# Altium footprint library ad.PcbLib: 129 footprints (part 1 of 12)
Each footprint in its own frame and in the unit in brackets; x right, y up, seen from the top. Pads: shape width x height; smd on the part's side, far side on the other; paste and mask are expansions set on the pad; w line width, h text height; cw(c..) or ccw(c..) is an arc to the next point about the centre after c.
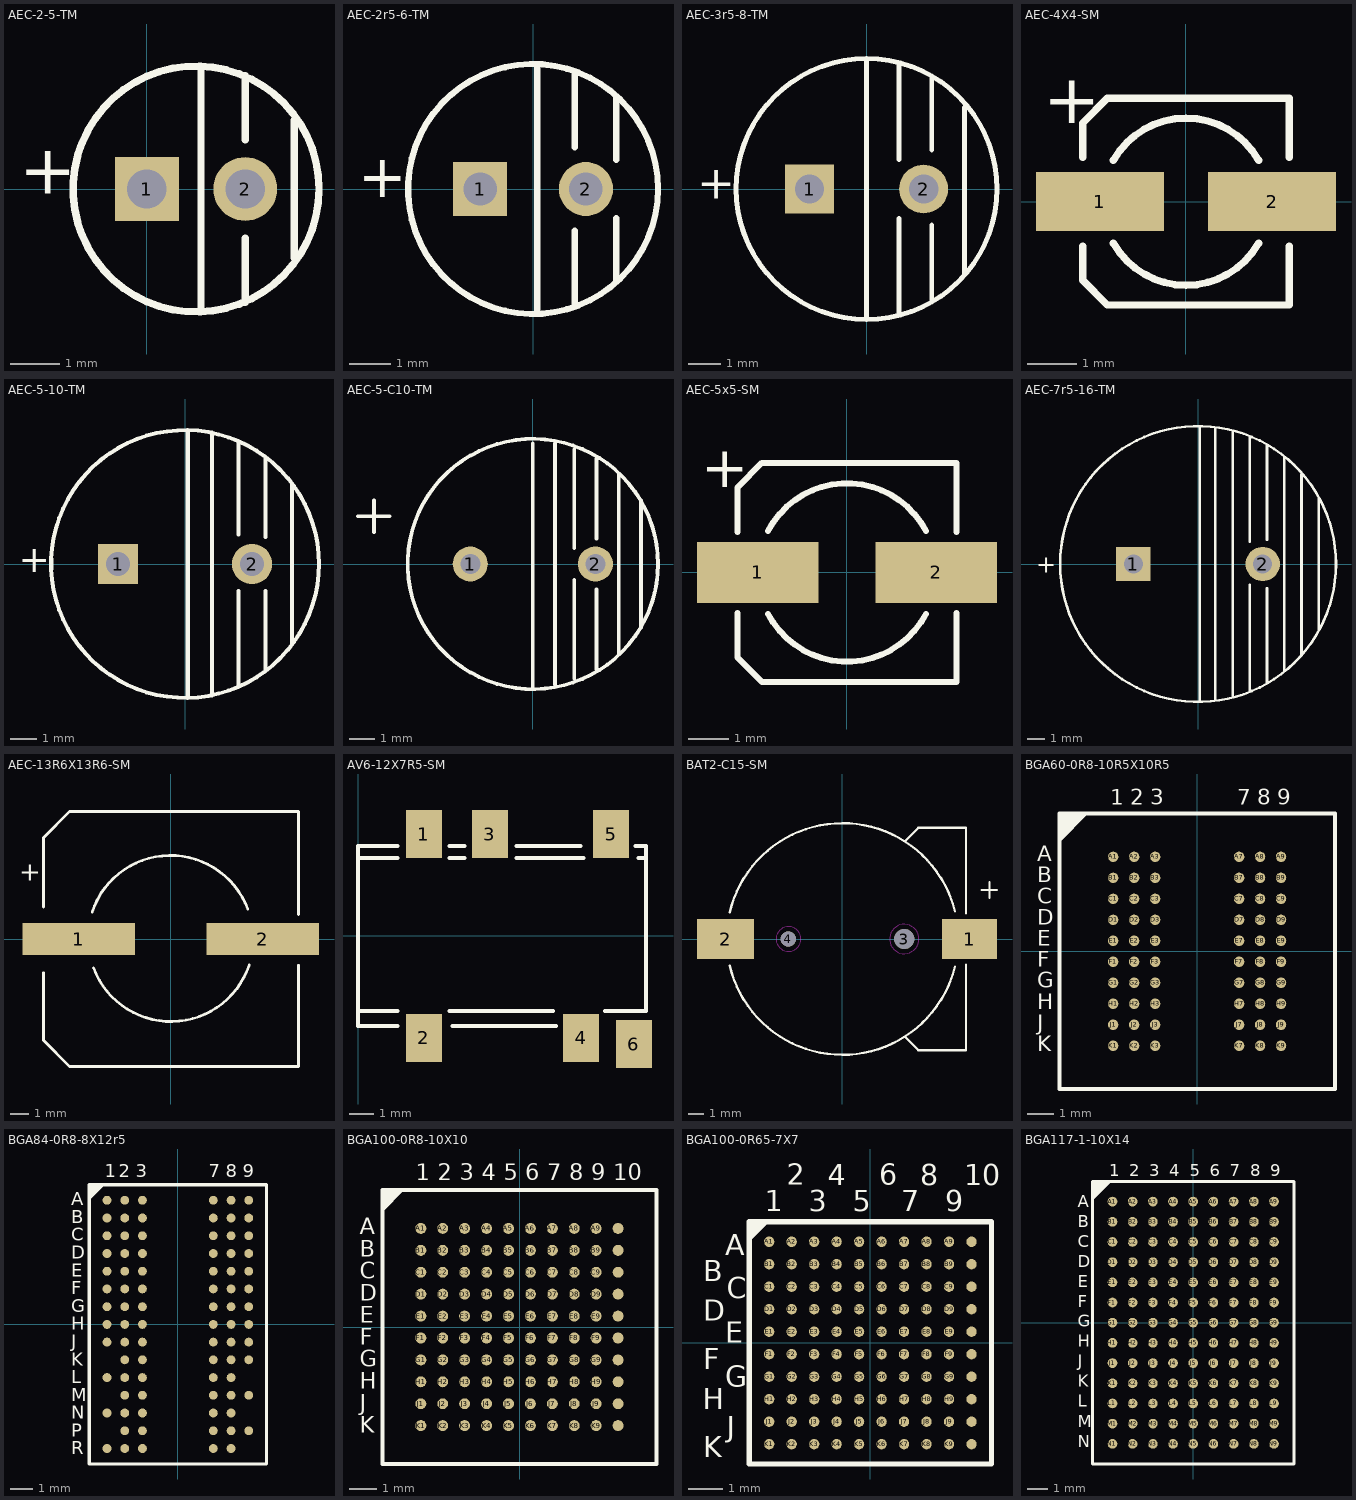
[diagram p0: the footprints below, top view; thin cyan lines are the x and y axes]

## AEC-2-5-TM [mm]
pads (2):
  rect 1.3x1.3 hole 0.8: 1(0,0)
  round 1.3 hole 0.8: 2(2,0)
Top Overlay:
  circle w0.15: c1,0 r2.5
  lines w0.15: 1.1,-2.5 1.1,2.5 ; 2,-2.3 2,-1 ; 2,1 2,2.3 ; 3,-1.4 3,1.4
  text "+" at -2.6,-0.1 h1.02

## AEC-2r5-6-TM [mm]
pads (2):
  rect 1.3x1.3 hole 0.8: 1(-1.27,0)
  round 1.3 hole 0.8: 2(1.27,0)
Top Overlay:
  circle w0.15: c0,0 r3
  lines w0.15: 0.1,-3 0.1,3 ; 1,-2.8 1,-1 ; 1,1 1,2.8 ; 2,-2.2 2,-0.7 ; 2,0.7 2,2.2
  text "+" at -4.2,-0.2 h1.02

## AEC-3r5-8-TM [mm]
pads (2):
  rect 1.5x1.5 hole 0.9: 1(-1.75,0)
  round 1.5 hole 0.9: 2(1.75,0)
Top Overlay:
  circle w0.15: c0,0 r4
  lines w0.15: 0,-4 0,3.9 ; 1,-3.8 1,-0.9 ; 1,0.9 1,3.8 ; 2,-3.4 2,-1.1 ; 2,1.2 2,3.4 ; 3,-2.6 3,2.5
  text "+" at -5.2,-0.3 h1.02

## AEC-4X4-SM [mm]
pads (2):
  rect 2.6x1.2 smd: 1(-1.75,0) 2(1.75,0)
Top Overlay:
  lines w0.15: -2.1,-0.9 -2.1,-1.6 -1.6,-2.1 -1.5,-2.1 2.1,-2.1 2.1,-0.9 ; -2.1,0.9 -2.1,1.6 -1.6,2.1 2.1,2.1 2.1,0.9 ; -1.476,-0.843 ccw(c0,0) 1.476,-0.843 ; -1.476,0.843 cw(c0,0) 1.476,0.843
  text "+" at -2.9,1.6 h1.02

## AEC-5-10-TM [mm]
pads (2):
  rect 1.5x1.5 hole 0.9: 1(-2.5,0)
  round 1.5 hole 0.9: 2(2.5,0)
Top Overlay:
  circle w0.15: c0,0 r5
  lines w0.15: 0.1,-5 0.1,5 ; 1,-4.9 1,4.9 ; 2,-4.5 2,-1 ; 2,1.1 2,4.5 ; 3,-4 3,-1 ; 3,1 3,4 ; 4,-3 4,3
  text "+" at -6.2,-0.3 h1.02

## AEC-5-C10-TM [mm]
pads (2):
  round 1.4 hole 0.8: 1(-2.5,0) 2(2.5,0)
Top Overlay:
  circle w0.15: c0,0 r5
  lines w0.15: -6.985,1.905 -5.715,1.905 ; -6.35,1.27 -6.35,2.54 ; 0,-4.953 0,4.826 ; 0.889,-4.826 0.889,1.016 0.889,4.826 ; 1.651,-4.572 1.651,-0.635 ; 1.651,0.635 1.651,4.572 ; 2.54,-4.191 2.54,-1.016 ; 2.54,1.016 2.54,4.191 ; 3.429,-3.556 3.429,3.556 ; 4.318,-2.54 4.318,2.54

## AEC-5x5-SM [mm]
pads (2):
  rect 3x1.5 smd: 1(-2.2,0) 2(2.2,0)
Top Overlay:
  lines w0.15: -2.7,-1 -2.7,-2.1 -2.1,-2.7 2.7,-2.7 2.7,-1 ; -2.7,1 -2.7,2.1 -2.1,2.7 2.7,2.7 2.7,1 ; -1.947,-1.025 ccw(c0,0) 1.947,-1.025 ; -1.947,1.025 cw(c0,0) 1.947,1.025
  text "+" at -3.6,2.1 h1.02

## AEC-7r5-16-TM [mm]
pads (2):
  rect 2x2 hole 1.1: 1(-3.75,0)
  round 2 hole 1.1: 2(3.75,0)
Top Overlay:
  circle w0.15: c0,0 r8
  lines w0.15: 0.1,-8 0.1,8 ; 1,-7.9 1,7.9 ; 2,-7.7 2,7.7 ; 3,-7.4 3,-1.2 ; 3,1.3 3,7.4 ; 4,-6.9 4,-1.4 ; 4,1.4 4,6.9 ; 5,-6.2 5,6.2 ; 6,-5.3 6,5.2 ; 7,-3.8 7,3.8
  text "+" at -9.4,-0.5 h1.02

## AEC-13R6X13R6-SM [mm]
pads (2):
  rect 6x1.7 smd: 1(-4.9,0) 2(4.9,0)
Top Overlay:
  lines w0.15: -6.8,-1.8 -6.8,-5.4 -5.4,-6.8 6.8,-6.8 6.8,-1.4 ; -6.8,1.7 -6.8,5.4 -5.4,6.8 6.8,6.8 6.8,1.3 ; -4.196,1.446 cw(c-0.021,0.055) 4.1,1.6 ; -4.121,-1.545 ccw(c0,0) 4.175,-1.392
  text "+" at -8.1,3.1 h1.02

## AV6-12X7R5-SM [mm]
pads (6):
  rect 1.5x2 smd: 1(2.75,4.25) 2(2.75,-4.25) 3(5.5,4.25) 4(9.3,-4.25) 5(10.55,4.25) 6(11.5,-4.5)
Top Overlay:
  lines w0.15: 1.651,-3.75 0,-3.75 0,-3.123 ; 1.651,-3.123 0,-3.123 ; 1.651,3.25 0,3.25 ; 1.651,3.75 0,3.75 0,3.25 ; 3.81,-3.123 8.128,-3.123 ; 3.81,3.25 4.445,3.25 ; 3.81,3.75 4.445,3.75 ; 3.937,-3.75 8.255,-3.75 ; 6.604,3.25 9.398,3.25 ; 6.604,3.75 9.271,3.75 ; 10.287,-3.123 12,-3.123 12,3.25 ; 11.557,3.75 12,3.75 12,3.25 ; 11.684,3.25 12,3.25 ; 0,-3.123 0,3.25

## BAT2-C15-SM [mm]
pads (4):
  rect 3.55x2.6 smd: 1(8.23,0)
  rect 3.7x2.6 smd: 2(-7.57,0)
  round 1.3 hole 1.3 unplated: 3(4,0)
  round 1 hole 1 unplated: 4(-3.5,0)
Top Overlay:
  lines w0.15: -7.297,-1.732 ccw(c0,0) 7.284,-1.789 ; -7.297,1.732 cw(c0,0) 7.284,1.789 ; 4.064,-6.35 4.914,-7.2 5.207,-7.2 8.001,-7.2 8.001,-1.651 ; 4.064,6.35 4.914,7.2 5.207,7.2 8.001,7.2 8.001,1.651 ; 9,3.175 10,3.175 ; 9.525,2.667 9.525,3.667
Keep-Out Layer:
  circle w0: c4,0 r0.95
  circle w0: c-3.5,0 r0.8

## BGA60-0R8-10R5X10R5 [mm]
pads (60):
  round 0.4 smd: A1(-3.2,3.6) A2(-2.4,3.6) A3(-1.6,3.6) A7(1.6,3.6) A8(2.4,3.6) A9(3.2,3.6) B1(-3.2,2.8) B2(-2.4,2.8) B3(-1.6,2.8) B7(1.6,2.8) B8(2.4,2.8) B9(3.2,2.8) C1(-3.2,2) C2(-2.4,2) C3(-1.6,2) C7(1.6,2) C8(2.4,2) C9(3.2,2) D1(-3.2,1.2) D2(-2.4,1.2) D3(-1.6,1.2) D7(1.6,1.2) D8(2.4,1.2) D9(3.2,1.2) E1(-3.2,0.4) E2(-2.4,0.4) E3(-1.6,0.4) E7(1.6,0.4) E8(2.4,0.4) E9(3.2,0.4) F1(-3.2,-0.4) F2(-2.4,-0.4) F3(-1.6,-0.4) F7(1.6,-0.4) F8(2.4,-0.4) F9(3.2,-0.4) G1(-3.2,-1.2) G2(-2.4,-1.2) G3(-1.6,-1.2) G7(1.6,-1.2) G8(2.4,-1.2) G9(3.2,-1.2) H1(-3.2,-2) H2(-2.4,-2) H3(-1.6,-2) H7(1.6,-2) H8(2.4,-2) H9(3.2,-2) J1(-3.2,-2.8) J2(-2.4,-2.8) J3(-1.6,-2.8) J7(1.6,-2.8) J8(2.4,-2.8) J9(3.2,-2.8) K1(-3.2,-3.6) K2(-2.4,-3.6) K3(-1.6,-3.6) K7(1.6,-3.6) K8(2.4,-3.6) K9(3.2,-3.6)
Top Overlay:
  region: -5.25,5.25 -4.318,5.25 -5.25,4.318
  lines w0.15: -5.25,-5.25 5.25,-5.25 5.25,5.25 ; -5.25,-5.25 -5.25,4.25 -4.25,5.25 5.25,5.25 ; -5.25,-5.25 -5.25,5.25 5.25,5.25
  text "1" at -3.302,5.588 h0.6
  text "2" at -2.54,5.588 h0.6
  text "3" at -1.778,5.588 h0.6
  text "7" at 1.524,5.588 h0.6
  text "8" at 2.286,5.588 h0.6
  text "9" at 3.048,5.588 h0.6
  text "A" at -6.096,3.429 h0.6
  text "B" at -6.096,2.625 h0.6
  text "C" at -6.096,1.82 h0.6
  text "D" at -6.096,1.016 h0.6
  text "E" at -6.096,0.212 h0.6
  text "F" at -6.096,-0.593 h0.6
  text "G" at -6.096,-1.397 h0.6
  text "H" at -6.096,-2.201 h0.6
  text "J" at -6.096,-3.006 h0.6
  text "K" at -6.096,-3.81 h0.6

## BGA84-0R8-8X12r5 [mm]
pads (84):
  round 0.4 smd: A1(-3.2,5.6) A2(-2.4,5.6) A3(-1.6,5.6) A7(1.6,5.6) A8(2.4,5.6) A9(3.2,5.6) B1(-3.2,4.8) B2(-2.4,4.8) B3(-1.6,4.8) B7(1.6,4.8) B8(2.4,4.8) B9(3.2,4.8) C1(-3.2,4) C2(-2.4,4) C3(-1.6,4) C7(1.6,4) C8(2.4,4) C9(3.2,4) D1(-3.2,3.2) D2(-2.4,3.2) D3(-1.6,3.2) D7(1.6,3.2) D8(2.4,3.2) D9(3.2,3.2) E1(-3.2,2.4) E2(-2.4,2.4) E3(-1.6,2.4) E7(1.6,2.4) E8(2.4,2.4) E9(3.2,2.4) F1(-3.2,1.6) F2(-2.4,1.6) F3(-1.6,1.6) F7(1.6,1.6) F8(2.4,1.6) F9(3.2,1.6) G1(-3.2,0.8) G2(-2.4,0.8) G3(-1.6,0.8) G7(1.6,0.8) G8(2.4,0.8) G9(3.2,0.8) H1(-3.2,0) H2(-2.4,0) H3(-1.6,0) H7(1.6,0) H8(2.4,0) H9(3.2,0) J1(-3.2,-0.8) J2(-2.4,-0.8) J3(-1.6,-0.8) J7(1.6,-0.8) J8(2.4,-0.8) J9(3.2,-0.8) K2(-2.4,-1.6) K3(-1.6,-1.6) K7(1.6,-1.6) K8(2.4,-1.6) K9(3.2,-1.6) L1(-3.2,-2.4) L2(-2.4,-2.4) L3(-1.6,-2.4) L7(1.6,-2.4) L8(2.4,-2.4) M2(-2.4,-3.2) M3(-1.6,-3.2) M7(1.6,-3.2) M8(2.4,-3.2) M9(3.2,-3.2) N1(-3.2,-4) N2(-2.4,-4) N3(-1.6,-4) N7(1.6,-4) N8(2.4,-4) P2(-2.4,-4.8) P3(-1.6,-4.8) P7(1.6,-4.8) P8(2.4,-4.8) P9(3.2,-4.8) R1(-3.2,-5.6) R2(-2.4,-5.6) R3(-1.6,-5.6) R7(1.6,-5.6) R8(2.4,-5.6)
Top Overlay:
  region: -4,6.3 -3.302,6.3 -4,5.602
  lines w0.15: -4,-6.3 -4,6.3 4,6.3 4,-6.3 -4,-6.3
  text "R" at -4.801,-5.861 h0.6
  text "P" at -4.801,-5.061 h0.6
  text "N" at -4.801,-4.261 h0.6
  text "M" at -4.801,-3.461 h0.6
  text "L" at -4.801,-2.661 h0.6
  text "1" at -3.302,6.638 h0.6
  text "9" at 2.921,6.638 h0.6
  text "8" at 2.159,6.638 h0.6
  text "7" at 1.397,6.638 h0.6
  text "3" at -1.905,6.638 h0.6
  text "2" at -2.667,6.638 h0.6
  text "K" at -4.801,-1.861 h0.6
  text "J" at -4.801,-1.057 h0.6
  text "H" at -4.801,-0.252 h0.6
  text "G" at -4.801,0.552 h0.6
  text "F" at -4.801,1.356 h0.6
  text "E" at -4.801,2.161 h0.6
  text "D" at -4.801,2.965 h0.6
  text "C" at -4.801,3.769 h0.6
  text "B" at -4.801,4.574 h0.6
  text "A" at -4.801,5.378 h0.6

## BGA100-0R8-10X10 [mm]
pads (100):
  round 0.4 smd: A1(-3.605,3.605) A2(-2.805,3.605) A3(-2.005,3.605) A4(-1.205,3.605) A5(-0.405,3.605) A6(0.395,3.605) A7(1.195,3.605) A8(1.995,3.605) A9(2.795,3.605) A10(3.595,3.605) B1(-3.605,2.805) B2(-2.805,2.805) B3(-2.005,2.805) B4(-1.205,2.805) B5(-0.405,2.805) B6(0.395,2.805) B7(1.195,2.805) B8(1.995,2.805) B9(2.795,2.805) B10(3.595,2.805) C1(-3.605,2.005) C2(-2.805,2.005) C3(-2.005,2.005) C4(-1.205,2.005) C5(-0.405,2.005) C6(0.395,2.005) C7(1.195,2.005) C8(1.995,2.005) C9(2.795,2.005) C10(3.595,2.005) D1(-3.605,1.205) D2(-2.805,1.205) D3(-2.005,1.205) D4(-1.205,1.205) D5(-0.405,1.205) D6(0.395,1.205) D7(1.195,1.205) D8(1.995,1.205) D9(2.795,1.205) D10(3.595,1.205) E1(-3.605,0.405) E2(-2.805,0.405) E3(-2.005,0.405) E4(-1.205,0.405) E5(-0.405,0.405) E6(0.395,0.405) E7(1.195,0.405) E8(1.995,0.405) E9(2.795,0.405) E10(3.595,0.405) F1(-3.605,-0.395) F2(-2.805,-0.395) F3(-2.005,-0.395) F4(-1.205,-0.395) F5(-0.405,-0.395) F6(0.395,-0.395) F7(1.195,-0.395) F8(1.995,-0.395) F9(2.795,-0.395) F10(3.595,-0.395) G1(-3.605,-1.195) G2(-2.805,-1.195) G3(-2.005,-1.195) G4(-1.205,-1.195) G5(-0.405,-1.195) G6(0.395,-1.195) G7(1.195,-1.195) G8(1.995,-1.195) G9(2.795,-1.195) G10(3.595,-1.195) H1(-3.605,-1.995) H2(-2.805,-1.995) H3(-2.005,-1.995) H4(-1.205,-1.995) H5(-0.405,-1.995) H6(0.395,-1.995) H7(1.195,-1.995) H8(1.995,-1.995) H9(2.795,-1.995) H10(3.595,-1.995) J1(-3.605,-2.795) J2(-2.805,-2.795) J3(-2.005,-2.795) J4(-1.205,-2.795) J5(-0.405,-2.795) J6(0.395,-2.795) J7(1.195,-2.795) J8(1.995,-2.795) J9(2.795,-2.795) J10(3.595,-2.795) K1(-3.605,-3.595) K2(-2.805,-3.595) K3(-2.005,-3.595) K4(-1.205,-3.595) K5(-0.405,-3.595) K6(0.395,-3.595) K7(1.195,-3.595) K8(1.995,-3.595) K9(2.795,-3.595) K10(3.595,-3.595)
Top Overlay:
  region: -5.005,5.005 -4.318,5.005 -5.005,4.318
  lines w0.15: -5.005,4.305 -4.305,5.005 4.995,5.005 ; 4.995,5.005 4.995,-4.995 -5.005,-4.995 -5.005,5.005 4.995,5.005
  text "A" at -5.841,3.383 h0.6
  text "B" at -5.841,2.579 h0.6
  text "C" at -5.841,1.774 h0.6
  text "D" at -5.841,0.97 h0.6
  text "E" at -5.841,0.166 h0.6
  text "F" at -5.841,-0.639 h0.6
  text "G" at -5.841,-1.443 h0.6
  text "H" at -5.841,-2.247 h0.6
  text "J" at -5.841,-3.052 h0.6
  text "K" at -5.841,-3.856 h0.6
  text "2" at -2.985,5.356 h0.6
  text "3" at -2.185,5.356 h0.6
  text "7" at 1.015,5.356 h0.6
  text "8" at 1.815,5.356 h0.6
  text "9" at 2.615,5.356 h0.6
  text "1" at -3.785,5.356 h0.6
  text "4" at -1.385,5.356 h0.6
  text "6" at 0.215,5.356 h0.6
  text "5" at -0.585,5.356 h0.6
  text "10" at 3.415,5.356 h0.6

## BGA100-0R65-7X7 [mm]
pads (100):
  round 0.3 smd: A1(-2.925,2.925) A2(-2.275,2.925) A3(-1.625,2.925) A4(-0.975,2.925) A5(-0.325,2.925) A6(0.325,2.925) A7(0.975,2.925) A8(1.625,2.925) A9(2.275,2.925) A10(2.925,2.925) B1(-2.925,2.275) B2(-2.275,2.275) B3(-1.625,2.275) B4(-0.975,2.275) B5(-0.325,2.275) B6(0.325,2.275) B7(0.975,2.275) B8(1.625,2.275) B9(2.275,2.275) B10(2.925,2.275) C1(-2.925,1.625) C2(-2.275,1.625) C3(-1.625,1.625) C4(-0.975,1.625) C5(-0.325,1.625) C6(0.325,1.625) C7(0.975,1.625) C8(1.625,1.625) C9(2.275,1.625) C10(2.925,1.625) D1(-2.925,0.975) D2(-2.275,0.975) D3(-1.625,0.975) D4(-0.975,0.975) D5(-0.325,0.975) D6(0.325,0.975) D7(0.975,0.975) D8(1.625,0.975) D9(2.275,0.975) D10(2.925,0.975) E1(-2.925,0.325) E2(-2.275,0.325) E3(-1.625,0.325) E4(-0.975,0.325) E5(-0.325,0.325) E6(0.325,0.325) E7(0.975,0.325) E8(1.625,0.325) E9(2.275,0.325) E10(2.925,0.325) F1(-2.925,-0.325) F2(-2.275,-0.325) F3(-1.625,-0.325) F4(-0.975,-0.325) F5(-0.325,-0.325) F6(0.325,-0.325) F7(0.975,-0.325) F8(1.625,-0.325) F9(2.275,-0.325) F10(2.925,-0.325) G1(-2.925,-0.975) G2(-2.275,-0.975) G3(-1.625,-0.975) G4(-0.975,-0.975) G5(-0.325,-0.975) G6(0.325,-0.975) G7(0.975,-0.975) G8(1.625,-0.975) G9(2.275,-0.975) G10(2.925,-0.975) H1(-2.925,-1.625) H2(-2.275,-1.625) H3(-1.625,-1.625) H4(-0.975,-1.625) H5(-0.325,-1.625) H6(0.325,-1.625) H7(0.975,-1.625) H8(1.625,-1.625) H9(2.275,-1.625) H10(2.925,-1.625) J1(-2.925,-2.275) J2(-2.275,-2.275) J3(-1.625,-2.275) J4(-0.975,-2.275) J5(-0.325,-2.275) J6(0.325,-2.275) J7(0.975,-2.275) J8(1.625,-2.275) J9(2.275,-2.275) J10(2.925,-2.275) K1(-2.925,-2.925) K2(-2.275,-2.925) K3(-1.625,-2.925) K4(-0.975,-2.925) K5(-0.325,-2.925) K6(0.325,-2.925) K7(0.975,-2.925) K8(1.625,-2.925) K9(2.275,-2.925) K10(2.925,-2.925)
Top Overlay:
  region: -2.921,3.5 -3.5,2.921 -3.5,3.5
  lines w0.15: -3.5,-3.5 3.5,-3.5 3.5,3.5 -3.5,3.5 -3.5,-3.5
  text "K" at -4.826,-3.302 h0.6
  text "J" at -4.149,-2.725 h0.6
  text "H" at -4.848,-1.921 h0.6
  text "G" at -4.191,-1.27 h0.6
  text "F" at -4.826,-0.762 h0.6
  text "E" at -4.191,0 h0.6
  text "D" at -4.826,0.635 h0.6
  text "C" at -4.149,1.296 h0.6
  text "B" at -4.826,1.778 h0.6
  text "A" at -4.191,2.54 h0.6
  text "10" at 2.709,4.56 h0.6
  text "5" at -0.508,3.81 h0.6
  text "6" at 0.254,4.572 h0.6
  text "4" at -1.228,4.56 h0.6
  text "1" at -3.048,3.81 h0.6
  text "9" at 2.159,3.81 h0.6
  text "8" at 1.439,4.56 h0.6
  text "7" at 0.889,3.81 h0.6
  text "3" at -1.778,3.81 h0.6
  text "2" at -2.413,4.572 h0.6

## BGA117-1-10X14 [mm]
pads (117):
  round 0.48 smd: A1(-4,6) A2(-3,6) A3(-2,6) A4(-1,6) A5(0,6) A6(1,6) A7(2,6) A8(3,6) A9(4,6) B1(-4,5) B2(-3,5) B3(-2,5) B4(-1,5) B5(0,5) B6(1,5) B7(2,5) B8(3,5) B9(4,5) C1(-4,4) C2(-3,4) C3(-2,4) C4(-1,4) C5(0,4) C6(1,4) C7(2,4) C8(3,4) C9(4,4) D1(-4,3) D2(-3,3) D3(-2,3) D4(-1,3) D5(0,3) D6(1,3) D7(2,3) D8(3,3) D9(4,3) E1(-4,2) E2(-3,2) E3(-2,2) E4(-1,2) E5(0,2) E6(1,2) E7(2,2) E8(3,2) E9(4,2) F1(-4,1) F2(-3,1) F3(-2,1) F4(-1,1) F5(0,1) F6(1,1) F7(2,1) F8(3,1) F9(4,1) G1(-4,0) G2(-3,0) G3(-2,0) G4(-1,0) G5(0,0) G6(1,0) G7(2,0) G8(3,0) G9(4,0) H1(-4,-1) H2(-3,-1) H3(-2,-1) H4(-1,-1) H5(0,-1) H6(1,-1) H7(2,-1) H8(3,-1) H9(4,-1) J1(-4,-2) J2(-3,-2) J3(-2,-2) J4(-1,-2) J5(0,-2) J6(1,-2) J7(2,-2) J8(3,-2) J9(4,-2) K1(-4,-3) K2(-3,-3) K3(-2,-3) K4(-1,-3) K5(0,-3) K6(1,-3) K7(2,-3) K8(3,-3) K9(4,-3) L1(-4,-4) L2(-3,-4) L3(-2,-4) L4(-1,-4) L5(0,-4) L6(1,-4) L7(2,-4) L8(3,-4) L9(4,-4) M1(-4,-5) M2(-3,-5) M3(-2,-5) M4(-1,-5) M5(0,-5) M6(1,-5) M7(2,-5) M8(3,-5) M9(4,-5) N1(-4,-6) N2(-3,-6) N3(-2,-6) N4(-1,-6) N5(0,-6) N6(1,-6) N7(2,-6) N8(3,-6) N9(4,-6)
Top Overlay:
  lines w0.15: -5,6.41 -4.41,7 -4.39,7 ; -5,6.58 -4.58,7 ; -5,6.59 -5,6.66 ; -5,6.73 -4.745,6.985 -4.865,6.985 -5,6.85 -5,6.74 ; -4.97,6.16 -4.19,6.94 -4.19,7 ; -4.94,6.33 -4.35,6.92 ; -5,-7 -5,7 5,7 5,-7 -5,-7
  text "2" at -3.169,7.261 h0.6
  text "3" at -2.172,7.261 h0.6
  text "7" at 1.816,7.261 h0.6
  text "8" at 2.813,7.261 h0.6
  text "9" at 3.81,7.261 h0.6
  text "1" at -4.166,7.261 h0.6
  text "4" at -1.175,7.261 h0.6
  text "6" at 0.819,7.261 h0.6
  text "5" at -0.178,7.261 h0.6
  text "A" at -5.715,5.715 h0.6
  text "B" at -5.715,4.727 h0.6
  text "C" at -5.715,3.739 h0.6
  text "D" at -5.715,2.752 h0.6
  text "E" at -5.715,1.764 h0.6
  text "F" at -5.715,0.776 h0.6
  text "G" at -5.715,-0.212 h0.6
  text "H" at -5.715,-1.199 h0.6
  text "J" at -5.715,-2.187 h0.6
  text "K" at -5.715,-3.175 h0.6
  text "L" at -5.715,-4.175 h0.6
  text "M" at -5.715,-5.175 h0.6
  text "N" at -5.715,-6.175 h0.6